# Altium schematic symbol library SPST-NO Solid State Relay.SchLib: 1 symbol
Pins are listed as number, name and electrical type; pins without a type are passive.

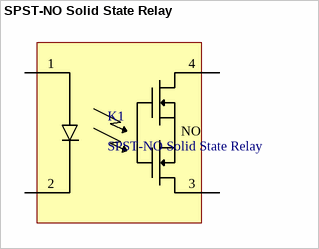
[diagram p0: symbol SPST-NO Solid State Relay]

## SPST-NO Solid State Relay
designator K1
footprint SPST-NO Solid State Relay - IXYS (Digikey: CLA233CT-ND / MFG: CPC1017NTR)
pins: 1 Control +, 2 Control -, 3 Load, 4 Load
text: NO